# EAGLE library part 1612898-1 (library 1612898-1)
Board to Board & Mezzanine Connectors BATTERY BLOCK CONN. PLUG ASSY Source: Datasheet <https://www.te.com/commerce/DocumentDelivery/DDEController?Action=showdoc&DocId=Customer Drawing1612898OpdfJapaneseJPN_CD_1612898_O.pdf1612898-1>
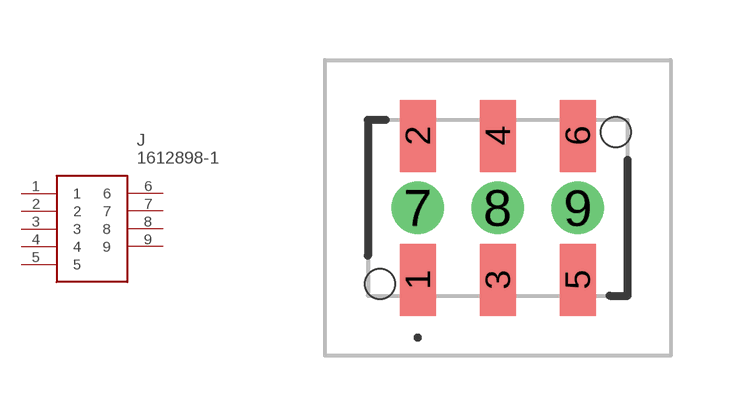
[diagram p0: symbol with the pads of 16128981; footprint 16128981]

Designator prefix J

## 1612898-1 (Description: Board to Board & Mezzanine Connectors BATTERY BLOCK CONN. PLUG ASSY; Height: 5.4mm; Manufacturer_Name: TE Connectivity; Manufacturer_Part_Number: 1612898-1; Mouser_Part_Number: 571-1612898-1; Mouser_Price-Stock: https://www.mouser.co.uk/ProductDetail/TE-Connectivity/1612898-1?qs=y6UIinpTn8ihonOLq5Ne5A%3D%3D)  [16128981]
1  1
2  2
3  3
4  4
5  5
6  6
7  7
8  8
9  9

## Footprint 16128981 (pad centres in mm)
1612898-1-1
smd 0.9 x 1.8: 1 -2,-1.8; 2 -2,1.8; 3 0,-1.8; 4 0,1.8; 5 2,-1.8; 6 2,1.8
drill 0.8 pad 1.3: 7 -2,0; 8 0,0; 9 2,0
hole 0.75 at -2.95,-1.9
hole 0.75 at 2.95,1.9